# Altium schematic symbol library Transistor_BJT.SchLib: 390 symbols (part 2 of 3)
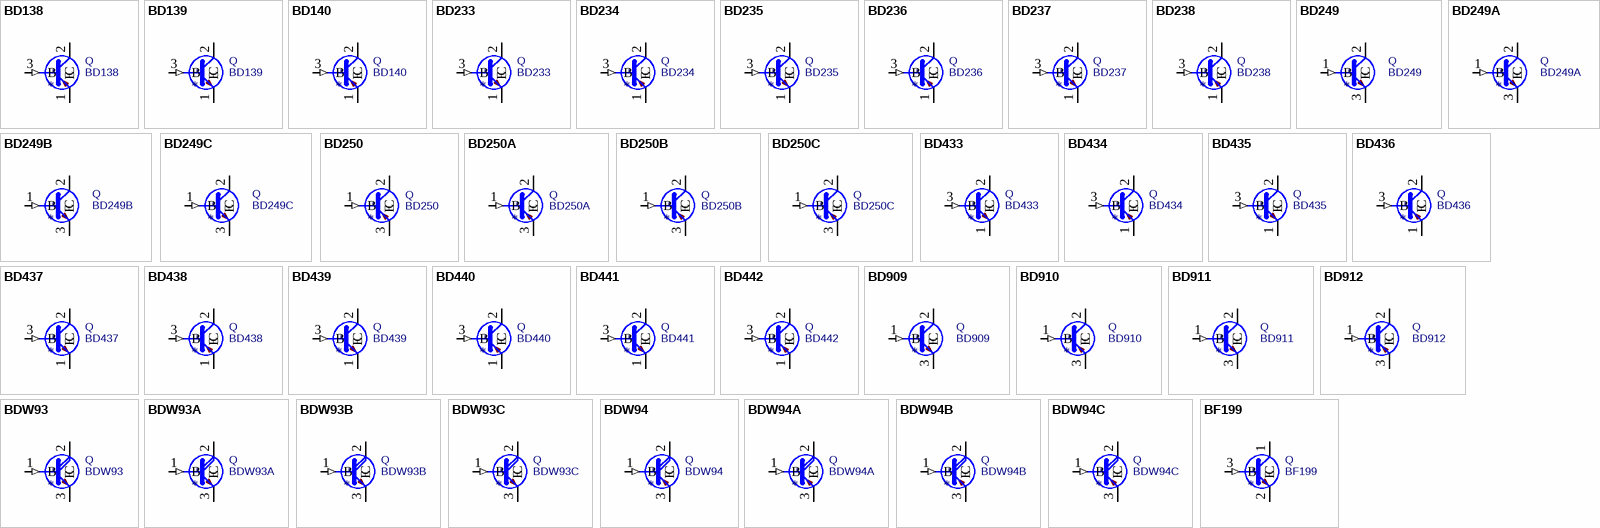
[diagram p12: symbols BD138 to BF199]

## BD909
designator *  value BD909  Reference: Q
15A, Silicon Power NPN Transistors, TO-220; ki_fp_filters: TO?220*; Footprint: Package_TO_SOT_THT:TO-220-3_Vertical; Datasheet: http://www.st.com/internet/com/TECHNICAL_RESOURCES/TECHNICAL_LITERATURE/DATASHEET/CD00001277.pdf; Description_: 15A, Silicon Power NPN Transistors, TO-220; ki_keywords: Power NPN Transistor
pins: 1 B (in), 2 C, 3 E

## BD910
designator *  value BD910  Reference: Q
15A, Silicon Power PNP Transistors, TO-220; ki_fp_filters: TO?220*; Footprint: Package_TO_SOT_THT:TO-220-3_Vertical; Datasheet: http://www.st.com/internet/com/TECHNICAL_RESOURCES/TECHNICAL_LITERATURE/DATASHEET/CD00001277.pdf; Description_: 15A, Silicon Power PNP Transistors, TO-220; ki_keywords: Power PNP Transistor
pins: 1 B (in), 2 C, 3 E

## BD911
designator *  value BD911  Reference: Q
15A, Silicon Power NPN Transistors, TO-220; ki_fp_filters: TO?220*; Footprint: Package_TO_SOT_THT:TO-220-3_Vertical; Datasheet: http://www.st.com/internet/com/TECHNICAL_RESOURCES/TECHNICAL_LITERATURE/DATASHEET/CD00001277.pdf; Description_: 15A, Silicon Power NPN Transistors, TO-220; ki_keywords: Power NPN Transistor
pins: 1 B (in), 2 C, 3 E

## BD912
designator *  value BD912  Reference: Q
BD910, 15A, Silicon Power PNP Transistors, TO-220; ki_fp_filters: TO?220*; Footprint: Package_TO_SOT_THT:TO-220-3_Vertical; Datasheet: http://www.st.com/internet/com/TECHNICAL_RESOURCES/TECHNICAL_LITERATURE/DATASHEET/CD00001277.pdf; Description_: BD910, 15A, Silicon Power PNP Transistors, TO-220; ki_keywords: Power PNP Transistor
pins: 1 B (in), 2 C, 3 E

## BDW93
designator *  value BDW93  Reference: Q
12A Ic, 45V Vce, Power Darlington NPN Transistor, TO-220; ki_fp_filters: TO?220*; Footprint: Package_TO_SOT_THT:TO-220-3_Vertical; Datasheet: https://www.onsemi.com/pub/Collateral/BDW93C-D.pdf; Description_: 12A Ic, 45V Vce, Power Darlington NPN Transistor, TO-220; ki_keywords: Darlington NPN Transistor
pins: 1 B (in), 2 C, 3 E

## BDW93A
designator *  value BDW93A  Reference: Q
12A Ic, 60V Vce, Power Darlington NPN Transistor, TO-220; ki_fp_filters: TO?220*; Footprint: Package_TO_SOT_THT:TO-220-3_Vertical; Datasheet: https://www.onsemi.com/pub/Collateral/BDW93C-D.pdf; Description_: 12A Ic, 60V Vce, Power Darlington NPN Transistor, TO-220; ki_keywords: Darlington NPN Transistor
pins: 1 B (in), 2 C, 3 E

## BDW93B
designator *  value BDW93B  Reference: Q
12A Ic, 80V Vce, Power Darlington NPN Transistor, TO-220; ki_fp_filters: TO?220*; Footprint: Package_TO_SOT_THT:TO-220-3_Vertical; Datasheet: https://www.onsemi.com/pub/Collateral/BDW93C-D.pdf; Description_: 12A Ic, 80V Vce, Power Darlington NPN Transistor, TO-220; ki_keywords: Darlington NPN Transistor
pins: 1 B (in), 2 C, 3 E

## BDW93C
designator *  value BDW93C  Reference: Q
12A Ic, 100V Vce, Power Darlington NPN Transistor, TO-220; ki_fp_filters: TO?220*; Footprint: Package_TO_SOT_THT:TO-220-3_Vertical; Datasheet: https://www.onsemi.com/pub/Collateral/BDW93C-D.pdf; Description_: 12A Ic, 100V Vce, Power Darlington NPN Transistor, TO-220; ki_keywords: Darlington NPN Transistor
pins: 1 B (in), 2 C, 3 E

## BDW94
designator *  value BDW94  Reference: Q
12A Ic, 45V Vce, Power Darlington PNP Transistor, TO-220; ki_fp_filters: TO?220*; Footprint: Package_TO_SOT_THT:TO-220-3_Vertical; Datasheet: http://www.bourns.com/data/global/pdfs/bdw94.pdf; Description_: 12A Ic, 45V Vce, Power Darlington PNP Transistor, TO-220; ki_keywords: Darlington PNP Transistor
pins: 1 B (in), 2 C, 3 E

## BDW94A
designator *  value BDW94A  Reference: Q
12A Ic, 60V Vce, Power Darlington PNP Transistor, TO-220; ki_fp_filters: TO?220*; Footprint: Package_TO_SOT_THT:TO-220-3_Vertical; Datasheet: http://www.bourns.com/data/global/pdfs/bdw94.pdf; Description_: 12A Ic, 60V Vce, Power Darlington PNP Transistor, TO-220; ki_keywords: Darlington PNP Transistor
pins: 1 B (in), 2 C, 3 E

## BDW94B
designator *  value BDW94B  Reference: Q
12A Ic, 80V Vce, Power Darlington PNP Transistor, TO-220; ki_fp_filters: TO?220*; Footprint: Package_TO_SOT_THT:TO-220-3_Vertical; Datasheet: http://www.bourns.com/data/global/pdfs/bdw94.pdf; Description_: 12A Ic, 80V Vce, Power Darlington PNP Transistor, TO-220; ki_keywords: Darlington PNP Transistor
pins: 1 B (in), 2 C, 3 E

## BDW94C
designator *  value BDW94C  Reference: Q
12A Ic, 100V Vce, Power Darlington PNP Transistor, TO-220; ki_fp_filters: TO?220*; Footprint: Package_TO_SOT_THT:TO-220-3_Vertical; Datasheet: http://www.bourns.com/data/global/pdfs/bdw94.pdf; Description_: 12A Ic, 100V Vce, Power Darlington PNP Transistor, TO-220; ki_keywords: Darlington PNP Transistor
pins: 1 B (in), 2 C, 3 E

## BF199
designator *  value BF199  Reference: Q
50mA Ic, 25V Vce, NPN Radio Frequency Transistor, TO-220; ki_keywords: RF NPN Transistor; ki_fp_filters: TO?92*; Footprint: Package_TO_SOT_THT:TO-92_Inline; Datasheet: http://www.micropik.com/PDF/BF199.pdf; Description_: 50mA Ic, 25V Vce, NPN Radio Frequency Transistor, TO-220
pins: 1 C, 2 E, 3 B (in)

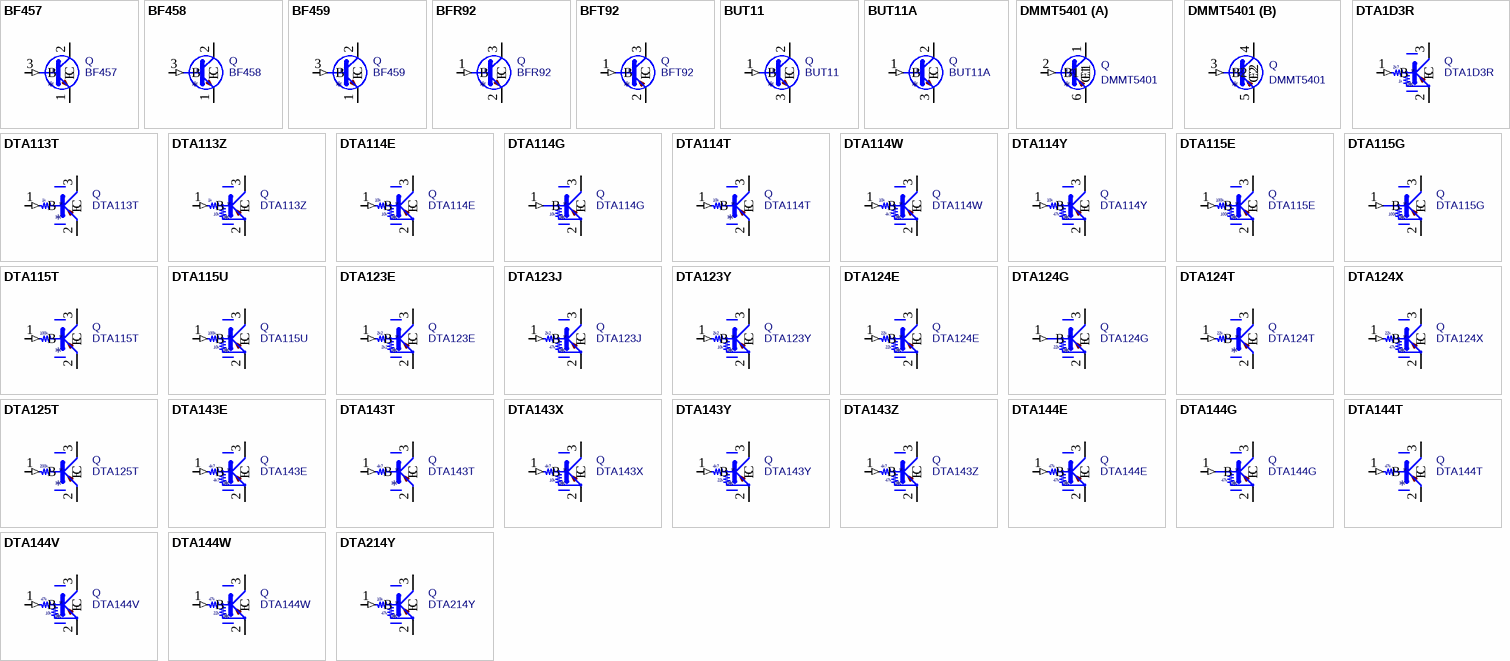
[diagram p4: symbols BF457 to DTA214Y]

## BF457
designator *  value BF457  Reference: Q
0.1A Ic, 160V Vce, High Voltage NPN Transistor, TO-126; ki_keywords: NPN HV High Voltage Transistor; ki_fp_filters: TO?126*; Footprint: Package_TO_SOT_THT:TO-126-3_Vertical; Datasheet: https://www.pcpaudio.com/pcpfiles/transistores/BF457-8-9.pdf; Description_: 0.1A Ic, 160V Vce, High Voltage NPN Transistor, TO-126
pins: 1 E, 2 C, 3 B (in)

## BF458
designator *  value BF458  Reference: Q
0.1A Ic, 250V Vce, High Voltage NPN Transistor, TO-126; ki_keywords: NPN HV High Voltage Transistor; ki_fp_filters: TO?126*; Footprint: Package_TO_SOT_THT:TO-126-3_Vertical; Datasheet: https://www.pcpaudio.com/pcpfiles/transistores/BF457-8-9.pdf; Description_: 0.1A Ic, 250V Vce, High Voltage NPN Transistor, TO-126
pins: 1 E, 2 C, 3 B (in)

## BF459
designator *  value BF459  Reference: Q
0.1A Ic, 300V Vce, High Voltage NPN Transistor, TO-126; ki_keywords: NPN HV High Voltage Transistor; ki_fp_filters: TO?126*; Footprint: Package_TO_SOT_THT:TO-126-3_Vertical; Datasheet: https://www.pcpaudio.com/pcpfiles/transistores/BF457-8-9.pdf; Description_: 0.1A Ic, 300V Vce, High Voltage NPN Transistor, TO-126
pins: 1 E, 2 C, 3 B (in)

## BFR92
designator *  value BFR92  Reference: Q
0.025A Ic, 15V Vce, 5GHz Wideband NPN Transistor, SOT-323; ki_keywords: RF 5GHz NPN Transistor; ki_fp_filters: SOT?323*; Footprint: Package_TO_SOT_SMD:SOT-323_SC-70; Datasheet: https://assets.nexperia.com/documents/data-sheet/BFR92A_N.pdf; Description_: 0.025A Ic, 15V Vce, 5GHz Wideband NPN Transistor, SOT-323
pins: 1 B (in), 2 E, 3 C

## BFT92
designator *  value BFT92  Reference: Q
0.025A Ic, 15V Vce, 5GHz Wideband PNP Transistor, SOT-23; ki_keywords: RF 5GHz NPN Transistor; ki_fp_filters: SOT?23*; Footprint: Package_TO_SOT_SMD:SOT-23; Datasheet: https://assets.nexperia.com/documents/data-sheet/BFT92_CNV.pdf; Description_: 0.025A Ic, 15V Vce, 5GHz Wideband PNP Transistor, SOT-23
pins: 1 B (in), 2 E, 3 C

## BUT11
designator *  value BUT11  Reference: Q
5A Ic, 400V Vce, Silicon Power NPN Transistors, TO-220; ki_keywords: High Voltage Power NPN Transistor; ki_fp_filters: TO?220*; Footprint: Package_TO_SOT_THT:TO-220-3_Vertical; Datasheet: https://www.onsemi.com/pub/Collateral/BUT11A-D.pdf; Description_: 5A Ic, 400V Vce, Silicon Power NPN Transistors, TO-220
pins: 1 B (in), 2 C, 3 E

## BUT11A
designator *  value BUT11A  Reference: Q
5A Ic, 450V Vce, Silicon Power NPN Transistors, TO-220; ki_keywords: High Voltage Power NPN Transistor; ki_fp_filters: TO?220*; Footprint: Package_TO_SOT_THT:TO-220-3_Vertical; Datasheet: https://www.onsemi.com/pub/Collateral/BUT11A-D.pdf; Description_: 5A Ic, 450V Vce, Silicon Power NPN Transistors, TO-220
pins: 1 B (in), 2 C, 3 E

## DMMT5401
designator *  value DMMT5401  Reference: Q
Dual PNP transistor, 6 pin package; ki_keywords: transistor PNP; ki_fp_filters: SOT?23*; Footprint: Package_TO_SOT_SMD:SOT-23-6; Datasheet: https://www.diodes.com/assets/Datasheets/ds30437.pdf; Description_: Dual PNP transistor, 6 pin package
part A pins: 1 C1, 2 B1 (in), 6 E1
part B pins: 3 B2 (in), 4 C2, 5 E2

## DTA1D3R
designator *  value DTA1D3R  Reference: Q
Digital PNP Transistor, 2k7/1k, SOT-23; ki_keywords: ROHM Digital PNP Transistor; ki_fp_filters: SOT?23* SC?59*; Description_: Digital PNP Transistor, 2k7/1k, SOT-23
pins: 1 B (in), 2 E, 3 C
text: 2k7; 1k

## DTA113T
designator *  value DTA113T  Reference: Q
Digital PNP Transistor, 1k/NONE, SOT-23; ki_keywords: ROHM Digital PNP Transistor; ki_fp_filters: SOT?23* SC?59*; Description_: Digital PNP Transistor, 1k/NONE, SOT-23
pins: 1 B (in), 2 E, 3 C
text: 1k

## DTA113Z
designator *  value DTA113Z  Reference: Q
Digital PNP Transistor, 1k/10k, SOT-23; ki_keywords: ROHM Digital PNP Transistor; ki_fp_filters: SOT?23* SC?59*; Description_: Digital PNP Transistor, 1k/10k, SOT-23
pins: 1 B (in), 2 E, 3 C
text: 1k; 10k

## DTA114E
designator *  value DTA114E  Reference: Q
Digital PNP Transistor, 10k/10k, SOT-23; ki_keywords: ROHM Digital PNP Transistor; ki_fp_filters: SOT?23* SC?59*; Description_: Digital PNP Transistor, 10k/10k, SOT-23
pins: 1 B (in), 2 E, 3 C
text: 10k

## DTA114G
designator *  value DTA114G  Reference: Q
Digital PNP Transistor, 0k/10k, SOT-23; ki_keywords: ROHM Digital PNP Transistor; ki_fp_filters: SOT?23* SC?59*; Description_: Digital PNP Transistor, 0k/10k, SOT-23
pins: 1 B (in), 2 E, 3 C
text: 10k

## DTA114T
designator *  value DTA114T  Reference: Q
Digital PNP Transistor, 10k/NONE, SOT-23; ki_keywords: ROHM Digital PNP Transistor; ki_fp_filters: SOT?23* SC?59*; Description_: Digital PNP Transistor, 10k/NONE, SOT-23
pins: 1 B (in), 2 E, 3 C
text: 10k

## DTA114W
designator *  value DTA114W  Reference: Q
Digital PNP Transistor, 10k/4.7k, SOT-23; ki_keywords: ROHM Digital PNP Transistor; ki_fp_filters: SOT?23* SC?59*; Description_: Digital PNP Transistor, 10k/4.7k, SOT-23
pins: 1 B (in), 2 E, 3 C
text: 10k; 4k7

## DTA114Y
designator *  value DTA114Y  Reference: Q
Digital PNP Transistor, 10k/47k, SOT-23; ki_keywords: ROHM Digital PNP Transistor; ki_fp_filters: SOT?23* SC?59*; Description_: Digital PNP Transistor, 10k/47k, SOT-23
pins: 1 B (in), 2 E, 3 C
text: 10k; 47k

## DTA115E
designator *  value DTA115E  Reference: Q
Digital PNP Transistor, 100k/100k, SOT-23; ki_keywords: ROHM Digital PNP Transistor; ki_fp_filters: SOT?23* SC?59*; Description_: Digital PNP Transistor, 100k/100k, SOT-23
pins: 1 B (in), 2 E, 3 C
text: 100k

## DTA115G
designator *  value DTA115G  Reference: Q
Digital PNP Transistor, 0k/100k, SOT-23; ki_keywords: ROHM Digital PNP Transistor; ki_fp_filters: SOT?23* SC?59*; Description_: Digital PNP Transistor, 0k/100k, SOT-23
pins: 1 B (in), 2 E, 3 C
text: 100k

## DTA115T
designator *  value DTA115T  Reference: Q
Digital PNP Transistor, 100k/NONE, SOT-23; ki_keywords: ROHM Digital PNP Transistor; ki_fp_filters: SOT?23* SC?59*; Description_: Digital PNP Transistor, 100k/NONE, SOT-23
pins: 1 B (in), 2 E, 3 C
text: 100k

## DTA115U
designator *  value DTA115U  Reference: Q
Digital PNP Transistor, 100k/10k, SOT-23; ki_keywords: ROHM Digital PNP Transistor; ki_fp_filters: SOT?23* SC?59*; Description_: Digital PNP Transistor, 100k/10k, SOT-23
pins: 1 B (in), 2 E, 3 C
text: 100k; 10k

## DTA123E
designator *  value DTA123E  Reference: Q
Digital PNP Transistor, 2k2/2k2, SOT-23; ki_keywords: ROHM Digital PNP Transistor; ki_fp_filters: SOT?23* SC?59*; Description_: Digital PNP Transistor, 2k2/2k2, SOT-23
pins: 1 B (in), 2 E, 3 C
text: 2k2

## DTA123J
designator *  value DTA123J  Reference: Q
Digital PNP Transistor, 2k2/47k, SOT-23; ki_keywords: ROHM Digital PNP Transistor; ki_fp_filters: SOT?23* SC?59*; Description_: Digital PNP Transistor, 2k2/47k, SOT-23
pins: 1 B (in), 2 E, 3 C
text: 2k2; 47k

## DTA123Y
designator *  value DTA123Y  Reference: Q
Digital PNP Transistor, 2k2/10k, SOT-23; ki_keywords: ROHM Digital PNP Transistor; ki_fp_filters: SOT?23* SC?59*; Description_: Digital PNP Transistor, 2k2/10k, SOT-23
pins: 1 B (in), 2 E, 3 C
text: 2k2; 10k

## DTA124E
designator *  value DTA124E  Reference: Q
Digital PNP Transistor, 22k/22k, SOT-23; ki_keywords: ROHM Digital PNP Transistor; ki_fp_filters: SOT?23* SC?59*; Description_: Digital PNP Transistor, 22k/22k, SOT-23
pins: 1 B (in), 2 E, 3 C
text: 22k

## DTA124G
designator *  value DTA124G  Reference: Q
Digital PNP Transistor, 0k/22k, SOT-23; ki_keywords: ROHM Digital PNP Transistor; ki_fp_filters: SOT?23* SC?59*; Description_: Digital PNP Transistor, 0k/22k, SOT-23
pins: 1 B (in), 2 E, 3 C
text: 22k

## DTA124T
designator *  value DTA124T  Reference: Q
Digital PNP Transistor, 22k/NONE, SOT-23; ki_keywords: ROHM Digital PNP Transistor; ki_fp_filters: SOT?23* SC?59*; Description_: Digital PNP Transistor, 22k/NONE, SOT-23
pins: 1 B (in), 2 E, 3 C
text: 22k

## DTA124X
designator *  value DTA124X  Reference: Q
Digital PNP Transistor, 22k/47k, SOT-23; ki_keywords: ROHM Digital PNP Transistor; ki_fp_filters: SOT?23* SC?59*; Description_: Digital PNP Transistor, 22k/47k, SOT-23
pins: 1 B (in), 2 E, 3 C
text: 22k; 47k

## DTA125T
designator *  value DTA125T  Reference: Q
Digital PNP Transistor, 200k/NONE, SOT-23; ki_keywords: ROHM Digital PNP Transistor; ki_fp_filters: SOT?23* SC?59*; Description_: Digital PNP Transistor, 200k/NONE, SOT-23
pins: 1 B (in), 2 E, 3 C
text: 200k

## DTA143E
designator *  value DTA143E  Reference: Q
Digital PNP Transistor, 4k7/4k7, SOT-23; ki_keywords: ROHM Digital PNP Transistor; ki_fp_filters: SOT?23* SC?59*; Description_: Digital PNP Transistor, 4k7/4k7, SOT-23
pins: 1 B (in), 2 E, 3 C
text: 4k7

## DTA143T
designator *  value DTA143T  Reference: Q
Digital PNP Transistor, 4k7/NONE, SOT-23; ki_keywords: ROHM Digital PNP Transistor; ki_fp_filters: SOT?23* SC?59*; Description_: Digital PNP Transistor, 4k7/NONE, SOT-23
pins: 1 B (in), 2 E, 3 C
text: 4k7

## DTA143X
designator *  value DTA143X  Reference: Q
Digital PNP Transistor, 4k7/10k, SOT-23; ki_keywords: ROHM Digital PNP Transistor; ki_fp_filters: SOT?23* SC?59*; Description_: Digital PNP Transistor, 4k7/10k, SOT-23
pins: 1 B (in), 2 E, 3 C
text: 4k7; 10k

## DTA143Y
designator *  value DTA143Y  Reference: Q
Digital PNP Transistor, 4k7/22k, SOT-23; ki_keywords: ROHM Digital PNP Transistor; ki_fp_filters: SOT?23* SC?59*; Description_: Digital PNP Transistor, 4k7/22k, SOT-23
pins: 1 B (in), 2 E, 3 C
text: 4k7; 22k

## DTA143Z
designator *  value DTA143Z  Reference: Q
Digital PNP Transistor, 4k7/47k, SOT-23; ki_keywords: ROHM Digital PNP Transistor; ki_fp_filters: SOT?23* SC?59*; Description_: Digital PNP Transistor, 4k7/47k, SOT-23
pins: 1 B (in), 2 E, 3 C
text: 4k7; 47k

## DTA144E
designator *  value DTA144E  Reference: Q
Digital PNP Transistor, 47k/47k, SOT-23; ki_keywords: ROHM Digital PNP Transistor; ki_fp_filters: SOT?23* SC?59*; Description_: Digital PNP Transistor, 47k/47k, SOT-23
pins: 1 B (in), 2 E, 3 C
text: 47k

## DTA144G
designator *  value DTA144G  Reference: Q
Digital PNP Transistor, 0k/47k, SOT-23; ki_keywords: ROHM Digital PNP Transistor; ki_fp_filters: SOT?23* SC?59*; Description_: Digital PNP Transistor, 0k/47k, SOT-23
pins: 1 B (in), 2 E, 3 C
text: 47k

## DTA144T
designator *  value DTA144T  Reference: Q
Digital PNP Transistor, 47k/NONE, SOT-23; ki_keywords: ROHM Digital PNP Transistor; ki_fp_filters: SOT?23* SC?59*; Description_: Digital PNP Transistor, 47k/NONE, SOT-23
pins: 1 B (in), 2 E, 3 C
text: 47k

## DTA144V
designator *  value DTA144V  Reference: Q
Digital PNP Transistor, 47k/10k, SOT-23; ki_keywords: ROHM Digital PNP Transistor; ki_fp_filters: SOT?23* SC?59*; Description_: Digital PNP Transistor, 47k/10k, SOT-23
pins: 1 B (in), 2 E, 3 C
text: 47k; 10k

## DTA144W
designator *  value DTA144W  Reference: Q
Digital PNP Transistor, 47k/22k, SOT-23; ki_keywords: ROHM Digital PNP Transistor; ki_fp_filters: SOT?23* SC?59*; Description_: Digital PNP Transistor, 47k/22k, SOT-23
pins: 1 B (in), 2 E, 3 C
text: 47k; 22k

## DTA214Y
designator *  value DTA214Y  Reference: Q
Digital PNP Transistor, 10k/47k, SOT-23; ki_keywords: ROHM Digital PNP Transistor; ki_fp_filters: SOT?23* SC?59*; Description_: Digital PNP Transistor, 10k/47k, SOT-23
pins: 1 B (in), 2 E, 3 C
text: 10k; 47k

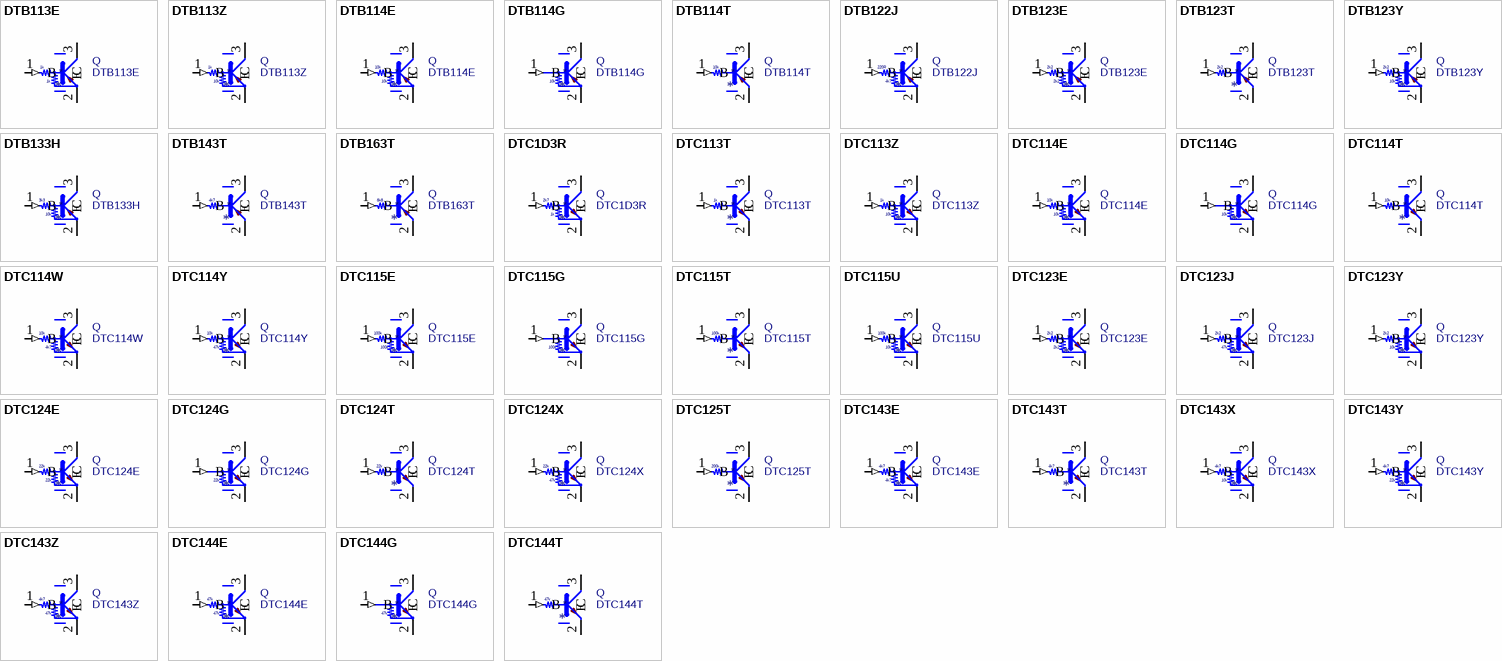
[diagram p5: symbols DTB113E to DTC144T]

## DTB113E
designator *  value DTB113E  Reference: Q
Digital PNP Transistor, 1k/1k, SOT-23; ki_keywords: ROHM Digital PNP Transistor; ki_fp_filters: SOT?23* SC?59*; Description_: Digital PNP Transistor, 1k/1k, SOT-23
pins: 1 B (in), 2 E, 3 C
text: 1k

## DTB113Z
designator *  value DTB113Z  Reference: Q
Digital PNP Transistor, 1k/10k, SOT-23; ki_keywords: ROHM Digital PNP Transistor; ki_fp_filters: SOT?23* SC?59*; Description_: Digital PNP Transistor, 1k/10k, SOT-23
pins: 1 B (in), 2 E, 3 C
text: 1k; 10k

## DTB114E
designator *  value DTB114E  Reference: Q
Digital PNP Transistor, 10k/10k, SOT-23; ki_keywords: ROHM Digital PNP Transistor; ki_fp_filters: SOT?23* SC?59*; Description_: Digital PNP Transistor, 10k/10k, SOT-23
pins: 1 B (in), 2 E, 3 C
text: 10k

## DTB114G
designator *  value DTB114G  Reference: Q
Digital PNP Transistor, 0k/10k, SOT-23; ki_keywords: ROHM Digital PNP Transistor; ki_fp_filters: SOT?23* SC?59*; Description_: Digital PNP Transistor, 0k/10k, SOT-23
pins: 1 B (in), 2 E, 3 C
text: 10k

## DTB114T
designator *  value DTB114T  Reference: Q
Digital PNP Transistor, 10k/NONE, SOT-23; ki_keywords: ROHM Digital PNP Transistor; ki_fp_filters: SOT?23* SC?59*; Description_: Digital PNP Transistor, 10k/NONE, SOT-23
pins: 1 B (in), 2 E, 3 C
text: 10k

## DTB122J
designator *  value DTB122J  Reference: Q
Digital PNP Transistor, 0k22/4k7, SOT-23; ki_keywords: ROHM Digital PNP Transistor; ki_fp_filters: SOT?23* SC?59*; Description_: Digital PNP Transistor, 0k22/4k7, SOT-23
pins: 1 B (in), 2 E, 3 C
text: 220R; 4k7

## DTB123E
designator *  value DTB123E  Reference: Q
Digital PNP Transistor, 2k2/2k2, SOT-23; ki_keywords: ROHM Digital PNP Transistor; ki_fp_filters: SOT?23* SC?59*; Description_: Digital PNP Transistor, 2k2/2k2, SOT-23
pins: 1 B (in), 2 E, 3 C
text: 2k2

## DTB123T
designator *  value DTB123T  Reference: Q
Digital PNP Transistor, 2k2/NONE, SOT-23; ki_keywords: ROHM Digital PNP Transistor; ki_fp_filters: SOT?23* SC?59*; Description_: Digital PNP Transistor, 2k2/NONE, SOT-23
pins: 1 B (in), 2 E, 3 C
text: 2k2

## DTB123Y
designator *  value DTB123Y  Reference: Q
Digital PNP Transistor, 2k2/10k, SOT-23; ki_keywords: ROHM Digital PNP Transistor; ki_fp_filters: SOT?23* SC?59*; Description_: Digital PNP Transistor, 2k2/10k, SOT-23
pins: 1 B (in), 2 E, 3 C
text: 2k2; 10k

## DTB133H
designator *  value DTB133H  Reference: Q
Digital PNP Transistor, 3k3/10k, SOT-23; ki_keywords: ROHM Digital PNP Transistor; ki_fp_filters: SOT?23* SC?59*; Description_: Digital PNP Transistor, 3k3/10k, SOT-23
pins: 1 B (in), 2 E, 3 C
text: 3k3; 10k

## DTB143T
designator *  value DTB143T  Reference: Q
Digital PNP Transistor, 4k7/NONE, SOT-23; ki_keywords: ROHM Digital PNP Transistor; ki_fp_filters: SOT?23* SC?59*; Description_: Digital PNP Transistor, 4k7/NONE, SOT-23
pins: 1 B (in), 2 E, 3 C
text: 4k7

## DTB163T
designator *  value DTB163T  Reference: Q
Digital PNP Transistor, 6k8/NONE, SOT-23; ki_keywords: ROHM Digital PNP Transistor; ki_fp_filters: SOT?23* SC?59*; Description_: Digital PNP Transistor, 6k8/NONE, SOT-23
pins: 1 B (in), 2 E, 3 C
text: 6k8

## DTC1D3R
designator *  value DTC1D3R  Reference: Q
Digital NPN Transistor, 2k7/1k, SOT-23; ki_keywords: ROHM Digital NPN Transistor; ki_fp_filters: SOT?23* SC?59*; Description_: Digital NPN Transistor, 2k7/1k, SOT-23
pins: 1 B (in), 2 E, 3 C
text: 2k7; 1k

## DTC113T
designator *  value DTC113T  Reference: Q
Digital NPN Transistor, 1k/NONE, SOT-23; ki_keywords: ROHM Digital NPN Transistor; ki_fp_filters: SOT?23* SC?59*; Description_: Digital NPN Transistor, 1k/NONE, SOT-23
pins: 1 B (in), 2 E, 3 C
text: 1k

## DTC113Z
designator *  value DTC113Z  Reference: Q
Digital NPN Transistor, 1k/10k, SOT-23; ki_keywords: ROHM Digital NPN Transistor; ki_fp_filters: SOT?23* SC?59*; Description_: Digital NPN Transistor, 1k/10k, SOT-23
pins: 1 B (in), 2 E, 3 C
text: 1k; 10k

## DTC114E
designator *  value DTC114E  Reference: Q
Digital NPN Transistor, 10k/10k, SOT-23; ki_keywords: ROHM Digital NPN Transistor; ki_fp_filters: SOT?23* SC?59*; Description_: Digital NPN Transistor, 10k/10k, SOT-23
pins: 1 B (in), 2 E, 3 C
text: 10k

## DTC114G
designator *  value DTC114G  Reference: Q
Digital NPN Transistor, 0k/10k, SOT-23; ki_keywords: ROHM Digital NPN Transistor; ki_fp_filters: SOT?23* SC?59*; Description_: Digital NPN Transistor, 0k/10k, SOT-23
pins: 1 B (in), 2 E, 3 C
text: 10k

## DTC114T
designator *  value DTC114T  Reference: Q
Digital NPN Transistor, 10k/NONE, SOT-23; ki_keywords: ROHM Digital NPN Transistor; ki_fp_filters: SOT?23* SC?59*; Description_: Digital NPN Transistor, 10k/NONE, SOT-23
pins: 1 B (in), 2 E, 3 C
text: 10k

## DTC114W
designator *  value DTC114W  Reference: Q
Digital NPN Transistor, 10k/4k7, SOT-23; ki_keywords: ROHM Digital NPN Transistor; ki_fp_filters: SOT?23* SC?59*; Description_: Digital NPN Transistor, 10k/4k7, SOT-23
pins: 1 B (in), 2 E, 3 C
text: 10k; 4k7

## DTC114Y
designator *  value DTC114Y  Reference: Q
Digital NPN Transistor, 10k/47k, SOT-23; ki_keywords: ROHM Digital NPN Transistor; ki_fp_filters: SOT?23* SC?59*; Description_: Digital NPN Transistor, 10k/47k, SOT-23
pins: 1 B (in), 2 E, 3 C
text: 10k; 47k

## DTC115E
designator *  value DTC115E  Reference: Q
Digital NPN Transistor, 100k/100k, SOT-23; ki_keywords: ROHM Digital NPN Transistor; ki_fp_filters: SOT?23* SC?59*; Description_: Digital NPN Transistor, 100k/100k, SOT-23
pins: 1 B (in), 2 E, 3 C
text: 100k

## DTC115G
designator *  value DTC115G  Reference: Q
Digital NPN Transistor, 0k/100k, SOT-23; ki_keywords: ROHM Digital NPN Transistor; ki_fp_filters: SOT?23* SC?59*; Description_: Digital NPN Transistor, 0k/100k, SOT-23
pins: 1 B (in), 2 E, 3 C
text: 100k

## DTC115T
designator *  value DTC115T  Reference: Q
Digital NPN Transistor, 100k/NONE, SOT-23; ki_keywords: ROHM Digital NPN Transistor; ki_fp_filters: SOT?23* SC?59*; Description_: Digital NPN Transistor, 100k/NONE, SOT-23
pins: 1 B (in), 2 E, 3 C
text: 100k

## DTC115U
designator *  value DTC115U  Reference: Q
Digital NPN Transistor, 100k/10k, SOT-23; ki_keywords: ROHM Digital NPN Transistor; ki_fp_filters: SOT?23* SC?59*; Description_: Digital NPN Transistor, 100k/10k, SOT-23
pins: 1 B (in), 2 E, 3 C
text: 100k; 10k

## DTC123E
designator *  value DTC123E  Reference: Q
Digital NPN Transistor, 2k2/2k2, SOT-23; ki_keywords: ROHM Digital NPN Transistor; ki_fp_filters: SOT?23* SC?59*; Description_: Digital NPN Transistor, 2k2/2k2, SOT-23
pins: 1 B (in), 2 E, 3 C
text: 2k2

## DTC123J
designator *  value DTC123J  Reference: Q
Digital NPN Transistor, 2k2/47k, SOT-23; ki_keywords: ROHM Digital NPN Transistor; ki_fp_filters: SOT?23* SC?59*; Description_: Digital NPN Transistor, 2k2/47k, SOT-23
pins: 1 B (in), 2 E, 3 C
text: 2k2; 47k

## DTC123Y
designator *  value DTC123Y  Reference: Q
Digital NPN Transistor, 2k2/10k, SOT-23; ki_keywords: ROHM Digital NPN Transistor; ki_fp_filters: SOT?23* SC?59*; Description_: Digital NPN Transistor, 2k2/10k, SOT-23
pins: 1 B (in), 2 E, 3 C
text: 2k2; 10k

## DTC124E
designator *  value DTC124E  Reference: Q
Digital NPN Transistor, 22k/22k, SOT-23; ki_keywords: ROHM Digital NPN Transistor; ki_fp_filters: SOT?23* SC?59*; Description_: Digital NPN Transistor, 22k/22k, SOT-23
pins: 1 B (in), 2 E, 3 C
text: 22k

## DTC124G
designator *  value DTC124G  Reference: Q
Digital NPN Transistor, 0k/22k, SOT-23; ki_keywords: ROHM Digital NPN Transistor; ki_fp_filters: SOT?23* SC?59*; Description_: Digital NPN Transistor, 0k/22k, SOT-23
pins: 1 B (in), 2 E, 3 C
text: 22k

## DTC124T
designator *  value DTC124T  Reference: Q
Digital NPN Transistor, 22k/NONE, SOT-23; ki_keywords: ROHM Digital NPN Transistor; ki_fp_filters: SOT?23* SC?59*; Description_: Digital NPN Transistor, 22k/NONE, SOT-23
pins: 1 B (in), 2 E, 3 C
text: 22k

## DTC124X
designator *  value DTC124X  Reference: Q
Digital NPN Transistor, 22k/47k, SOT-23; ki_keywords: ROHM Digital NPN Transistor; ki_fp_filters: SOT?23* SC?59*; Description_: Digital NPN Transistor, 22k/47k, SOT-23
pins: 1 B (in), 2 E, 3 C
text: 22k; 47k

## DTC125T
designator *  value DTC125T  Reference: Q
Digital NPN Transistor, 200k/NONE, SOT-23; ki_keywords: ROHM Digital NPN Transistor; ki_fp_filters: SOT?23* SC?59*; Description_: Digital NPN Transistor, 200k/NONE, SOT-23
pins: 1 B (in), 2 E, 3 C
text: 200k

## DTC143E
designator *  value DTC143E  Reference: Q
Digital NPN Transistor, 4k7/4k7, SOT-23; ki_keywords: ROHM Digital NPN Transistor; ki_fp_filters: SOT?23* SC?59*; Description_: Digital NPN Transistor, 4k7/4k7, SOT-23
pins: 1 B (in), 2 E, 3 C
text: 4k7

## DTC143T
designator *  value DTC143T  Reference: Q
Digital NPN Transistor, 4k7/NONE, SOT-23; ki_keywords: ROHM Digital NPN Transistor; ki_fp_filters: SOT?23* SC?59*; Description_: Digital NPN Transistor, 4k7/NONE, SOT-23
pins: 1 B (in), 2 E, 3 C
text: 4k7

## DTC143X
designator *  value DTC143X  Reference: Q
Digital NPN Transistor, 4k7/10k, SOT-23; ki_keywords: ROHM Digital NPN Transistor; ki_fp_filters: SOT?23* SC?59*; Description_: Digital NPN Transistor, 4k7/10k, SOT-23
pins: 1 B (in), 2 E, 3 C
text: 4k7; 10k

## DTC143Y
designator *  value DTC143Y  Reference: Q
Digital NPN Transistor, 4k7/22k, SOT-23; ki_keywords: ROHM Digital NPN Transistor; ki_fp_filters: SOT?23* SC?59*; Description_: Digital NPN Transistor, 4k7/22k, SOT-23
pins: 1 B (in), 2 E, 3 C
text: 4k7; 22k

## DTC143Z
designator *  value DTC143Z  Reference: Q
Digital NPN Transistor, 4k7/47k, SOT-23; ki_keywords: ROHM Digital NPN Transistor; ki_fp_filters: SOT?23* SC?59*; Description_: Digital NPN Transistor, 4k7/47k, SOT-23
pins: 1 B (in), 2 E, 3 C
text: 4k7; 47k

## DTC144E
designator *  value DTC144E  Reference: Q
Digital NPN Transistor, 47k/47k, SOT-23; ki_keywords: ROHM Digital NPN Transistor; ki_fp_filters: SOT?23* SC?59*; Description_: Digital NPN Transistor, 47k/47k, SOT-23
pins: 1 B (in), 2 E, 3 C
text: 47k

## DTC144G
designator *  value DTC144G  Reference: Q
Digital NPN Transistor, 0k/47k, SOT-23; ki_keywords: ROHM Digital NPN Transistor; ki_fp_filters: SOT?23* SC?59*; Description_: Digital NPN Transistor, 0k/47k, SOT-23
pins: 1 B (in), 2 E, 3 C
text: 47k

## DTC144T
designator *  value DTC144T  Reference: Q
Digital NPN Transistor, 47k/NONE, SOT-23; ki_keywords: ROHM Digital NPN Transistor; ki_fp_filters: SOT?23* SC?59*; Description_: Digital NPN Transistor, 47k/NONE, SOT-23
pins: 1 B (in), 2 E, 3 C
text: 47k

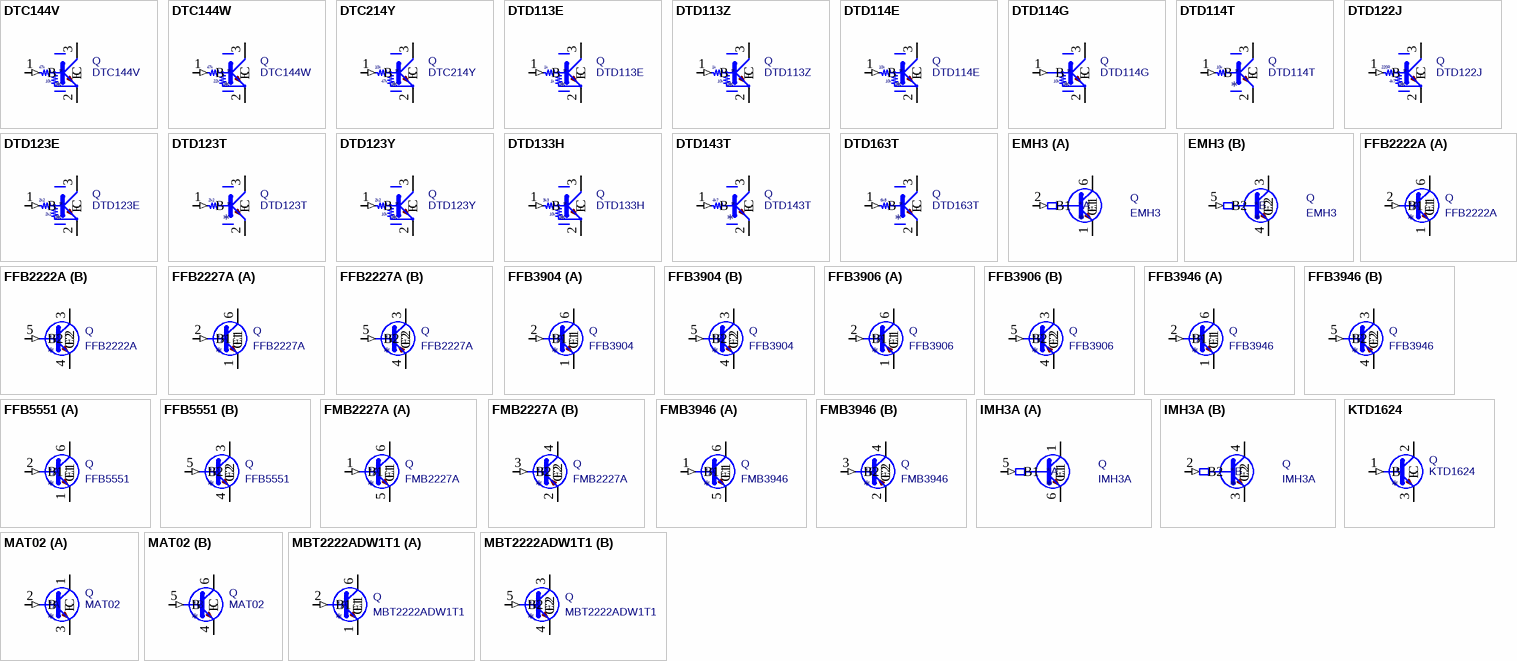
[diagram p6: symbols DTC144V to MBT2222ADW1T1]

## DTC144V
designator *  value DTC144V  Reference: Q
Digital NPN Transistor, 47k/10k, SOT-23; ki_keywords: ROHM Digital NPN Transistor; ki_fp_filters: SOT?23* SC?59*; Description_: Digital NPN Transistor, 47k/10k, SOT-23
pins: 1 B (in), 2 E, 3 C
text: 47k; 10k

## DTC144W
designator *  value DTC144W  Reference: Q
Digital NPN Transistor, 47k/22k, SOT-23; ki_keywords: ROHM Digital NPN Transistor; ki_fp_filters: SOT?23* SC?59*; Description_: Digital NPN Transistor, 47k/22k, SOT-23
pins: 1 B (in), 2 E, 3 C
text: 47k; 22k

## DTC214Y
designator *  value DTC214Y  Reference: Q
Digital NPN Transistor, 10k/47k, SOT-23; ki_keywords: ROHM Digital NPN Transistor; ki_fp_filters: SOT?23* SC?59*; Description_: Digital NPN Transistor, 10k/47k, SOT-23
pins: 1 B (in), 2 E, 3 C
text: 10k; 47k

## DTD113E
designator *  value DTD113E  Reference: Q
Digital NPN Transistor, 1k/1k, SOT-23; ki_keywords: ROHM Digital NPN Transistor; ki_fp_filters: SOT?23* SC?59*; Description_: Digital NPN Transistor, 1k/1k, SOT-23
pins: 1 B (in), 2 E, 3 C
text: 1k

## DTD113Z
designator *  value DTD113Z  Reference: Q
Digital NPN Transistor, 1k/10k, SOT-23; ki_keywords: ROHM Digital NPN Transistor; ki_fp_filters: SOT?23* SC?59*; Description_: Digital NPN Transistor, 1k/10k, SOT-23
pins: 1 B (in), 2 E, 3 C
text: 1k; 10k

## DTD114E
designator *  value DTD114E  Reference: Q
Digital NPN Transistor, 10k/10k, SOT-23; ki_keywords: ROHM Digital NPN Transistor; ki_fp_filters: SOT?23* SC?59*; Description_: Digital NPN Transistor, 10k/10k, SOT-23
pins: 1 B (in), 2 E, 3 C
text: 10k

## DTD114G
designator *  value DTD114G  Reference: Q
Digital NPN Transistor, 0k/10k, SOT-23; ki_keywords: ROHM Digital NPN Transistor; ki_fp_filters: SOT?23* SC?59*; Description_: Digital NPN Transistor, 0k/10k, SOT-23
pins: 1 B (in), 2 E, 3 C
text: 10k

## DTD114T
designator *  value DTD114T  Reference: Q
Digital NPN Transistor, 10k/NONE, SOT-23; ki_keywords: ROHM Digital NPN Transistor; ki_fp_filters: SOT?23* SC?59*; Description_: Digital NPN Transistor, 10k/NONE, SOT-23
pins: 1 B (in), 2 E, 3 C
text: 10k

## DTD122J
designator *  value DTD122J  Reference: Q
Digital NPN Transistor, 0k22/4k7, SOT-23; ki_keywords: ROHM Digital NPN Transistor; ki_fp_filters: SOT?23* SC?59*; Description_: Digital NPN Transistor, 0k22/4k7, SOT-23
pins: 1 B (in), 2 E, 3 C
text: 220R; 4k7

## DTD123E
designator *  value DTD123E  Reference: Q
Digital NPN Transistor, 2k2/2k2, SOT-23; ki_keywords: ROHM Digital NPN Transistor; ki_fp_filters: SOT?23* SC?59*; Description_: Digital NPN Transistor, 2k2/2k2, SOT-23
pins: 1 B (in), 2 E, 3 C
text: 2k2

## DTD123T
designator *  value DTD123T  Reference: Q
Digital NPN Transistor, 2k2/NONE, SOT-23; ki_keywords: ROHM Digital NPN Transistor; ki_fp_filters: SOT?23* SC?59*; Description_: Digital NPN Transistor, 2k2/NONE, SOT-23
pins: 1 B (in), 2 E, 3 C
text: 2k2

## DTD123Y
designator *  value DTD123Y  Reference: Q
Digital NPN Transistor, 2k2/10k, SOT-23; ki_keywords: ROHM Digital NPN Transistor; ki_fp_filters: SOT?23* SC?59*; Description_: Digital NPN Transistor, 2k2/10k, SOT-23
pins: 1 B (in), 2 E, 3 C
text: 2k2; 10k

## DTD133H
designator *  value DTD133H  Reference: Q
Digital NPN Transistor, 3k3/10k, SOT-23; ki_keywords: ROHM Digital NPN Transistor; ki_fp_filters: SOT?23* SC?59*; Description_: Digital NPN Transistor, 3k3/10k, SOT-23
pins: 1 B (in), 2 E, 3 C
text: 3k3; 10k

## DTD143T
designator *  value DTD143T  Reference: Q
Digital NPN Transistor, 4k7/NONE, SOT-23; ki_keywords: ROHM Digital NPN Transistor; ki_fp_filters: SOT?23* SC?59*; Description_: Digital NPN Transistor, 4k7/NONE, SOT-23
pins: 1 B (in), 2 E, 3 C
text: 4k7

## DTD163T
designator *  value DTD163T  Reference: Q
Digital NPN Transistor, 6k8/NONE, SOT-23; ki_keywords: ROHM Digital NPN Transistor; ki_fp_filters: SOT?23* SC?59*; Description_: Digital NPN Transistor, 6k8/NONE, SOT-23
pins: 1 B (in), 2 E, 3 C
text: 6k8

## EMH3
designator *  value EMH3  Reference: Q
0.1A Ic, 50V Vce, Dual NPN Input Resistor Transistors, SOT-563; ki_keywords: Dual NPN Transistor; ki_fp_filters: SOT?563*; Footprint: Package_TO_SOT_SMD:SOT-563; Datasheet: http://rohmfs.rohm.com/en/products/databook/datasheet/discrete/transistor/digital/emh3t2r-e.pdf; Description_: 0.1A Ic, 50V Vce, Dual NPN Input Resistor Transistors, SOT-563
part A pins: 1 E1, 2 B1 (in), 6 C1
part B pins: 3 C2, 4 E2, 5 B2 (in)

## FFB2222A
designator *  value FFB2222A  Reference: Q
600mA IC, 40V Vce, Dual NPN/NPN Transistors, SOT-363; ki_fp_filters: SOT?363*; Footprint: Package_TO_SOT_SMD:SOT-363_SC-70-6; Datasheet: https://www.onsemi.com/pub/Collateral/MMPQ2222A-D.pdf; Description_: 600mA IC, 40V Vce, Dual NPN/NPN Transistors, SOT-363; ki_keywords: NPN/NPN Transistor
part A pins: 1 E1, 2 B1 (in), 6 C1
part B pins: 3 C2, 4 E2, 5 B2 (in)

## FFB2227A
designator *  value FFB2227A  Reference: Q
500mA IC, 30V Vce, Dual NPN/PNP Transistors, SC-70-6; ki_fp_filters: SOT?363*; Footprint: Package_TO_SOT_SMD:SOT-363_SC-70-6; Datasheet: http://www.onsemi.com/pub/Collateral/FMB2227A-D.PDF; Description_: 500mA IC, 30V Vce, Dual NPN/PNP Transistors, SC-70-6; ki_keywords: NPN/PNP Transistor
part A pins: 1 E1, 2 B1 (in), 6 C1
part B pins: 3 C2, 4 E2, 5 B2 (in)

## FFB3904
designator *  value FFB3904  Reference: Q
200mA IC, 40V Vce, Dual NPN/NPN Transistors, SOT-363; ki_fp_filters: SOT?363*; Footprint: Package_TO_SOT_SMD:SOT-363_SC-70-6; Datasheet: https://www.onsemi.com/pub/Collateral/MMPQ3904-D.pdf; Description_: 200mA IC, 40V Vce, Dual NPN/NPN Transistors, SOT-363; ki_keywords: NPN/NPN Transistor
part A pins: 1 E1, 2 B1 (in), 6 C1
part B pins: 3 C2, 4 E2, 5 B2 (in)

## FFB3906
designator *  value FFB3906  Reference: Q
200mA IC, 40V Vce, Dual PNP/PNP Transistors, SOT-363; ki_fp_filters: SOT?363*; Footprint: Package_TO_SOT_SMD:SOT-363_SC-70-6; Datasheet: https://www.onsemi.com/pub/Collateral/MMPQ3906-D.pdf; Description_: 200mA IC, 40V Vce, Dual PNP/PNP Transistors, SOT-363; ki_keywords: PNP/PNP Transistor
part A pins: 1 E1, 2 B1 (in), 6 C1
part B pins: 3 C2, 4 E2, 5 B2 (in)

## FFB3946
designator *  value FFB3946  Reference: Q
200mA IC, 40V Vce, Dual NPN/PNP Transistors, SOT-363; ki_fp_filters: SOT?363*; Footprint: Package_TO_SOT_SMD:SOT-363_SC-70-6; Datasheet: http://www.onsemi.com/pub/Collateral/FMB3946-D.pdf; Description_: 200mA IC, 40V Vce, Dual NPN/PNP Transistors, SOT-363; ki_keywords: NPN/PNP Transistor
part A pins: 1 E1, 2 B1 (in), 6 C1
part B pins: 3 C2, 4 E2, 5 B2 (in)

## FFB5551
designator *  value FFB5551  Reference: Q
200mA IC, 160V Vce, Dual NPN/NPN Transistors, SOT-363; ki_fp_filters: SOT?363*; Footprint: Package_TO_SOT_SMD:SOT-363_SC-70-6; Datasheet: https://www.onsemi.com/pub/Collateral/FFB5551-D.PDF; Description_: 200mA IC, 160V Vce, Dual NPN/NPN Transistors, SOT-363; ki_keywords: NPN/NPN Transistor
part A pins: 1 E1, 2 B1 (in), 6 C1
part B pins: 3 C2, 4 E2, 5 B2 (in)

## FMB2227A
designator *  value FMB2227A  Reference: Q
500mA IC, 30V Vce, Dual NPN/PNP Transistors, SuperSOT-6; ki_fp_filters: SuperSOT*; Footprint: Package_TO_SOT_SMD:SuperSOT-6; Datasheet: http://www.onsemi.com/pub/Collateral/FMB2227A-D.PDF; Description_: 500mA IC, 30V Vce, Dual NPN/PNP Transistors, SuperSOT-6; ki_keywords: NPN/PNP Transistor
part A pins: 1 B1 (in), 5 E1, 6 C1
part B pins: 2 E2, 3 B2 (in), 4 C2

## FMB3946
designator *  value FMB3946  Reference: Q
200mA IC, 40V Vce, Dual NPN/PNP Transistors, SuperSOT-6; ki_fp_filters: SuperSOT*; Footprint: Package_TO_SOT_SMD:SuperSOT-6; Datasheet: http://www.onsemi.com/pub/Collateral/FMB3946-D.pdf; Description_: 200mA IC, 40V Vce, Dual NPN/PNP Transistors, SuperSOT-6; ki_keywords: NPN/PNP Transistor
part A pins: 1 B1 (in), 5 E1, 6 C1
part B pins: 2 E2, 3 B2 (in), 4 C2

## IMH3A
designator *  value IMH3A  Reference: Q
0.1A Ic, 50V Vce, Dual NPN Input Resistor Transistors, SOT-457; ki_keywords: Dual NPN Transistor; ki_fp_filters: ROHM*SOT?457*; Footprint: Package_TO_SOT_SMD:ROHM_SOT-457_ClockwisePinNumbering; Datasheet: http://rohmfs.rohm.com/en/products/databook/datasheet/discrete/transistor/digital/emh3t2r-e.pdf; Description_: 0.1A Ic, 50V Vce, Dual NPN Input Resistor Transistors, SOT-457
part A pins: 1 C1, 5 B1 (in), 6 E1
part B pins: 2 B2 (in), 3 E2, 4 C2

## KTD1624
designator *  value KTD1624  Reference: Q
Epitaxial Planar NPN Transistor, SOT-89; ki_keywords: Switching NPN Transistor; ki_fp_filters: SOT?89*; Footprint: Package_TO_SOT_SMD:SOT-89-3; Datasheet: http://www2.kec.co.kr/data/databook/pdf/KTD/Eng/KTD1624.pdf; Description_: Epitaxial Planar NPN Transistor, SOT-89
pins: 1 B (in), 2 C, 3 E

## MAT02
designator *  value MAT02  Reference: Q
20mA Ic, 40V Vce, Precision Dual Monolithic Low Noise, Low Offset Transistor, TO-78; ki_keywords: Precision Dual Monolithic Transistor Low Noise EOL; ki_fp_filters: TO?78*; Footprint: Package_TO_SOT_THT:TO-78-6; Datasheet: http://www.elenota.pl/datasheet_download/93431/MAT02; Description_: 20mA Ic, 40V Vce, Precision Dual Monolithic Low Noise, Low Offset Transistor, TO-78
part A pins: 1 C, 2 B (in), 3 E
part B pins: 4 E, 5 B (in), 6 C

## MBT2222ADW1T1
designator *  value MBT2222ADW1T1  Reference: Q
600mA IC, 40V Vce, Dual NPN/NPN Transistors, SOT-363; ki_fp_filters: SOT?363*; Footprint: Package_TO_SOT_SMD:SOT-363_SC-70-6; Datasheet: http://www.onsemi.com/pub_link/Collateral/MBT2222ADW1T1-D.PDF; Description_: 600mA IC, 40V Vce, Dual NPN/NPN Transistors, SOT-363; ki_keywords: NPN/NPN Transistor
part A pins: 1 E1, 2 B1 (in), 6 C1
part B pins: 3 C2, 4 E2, 5 B2 (in)

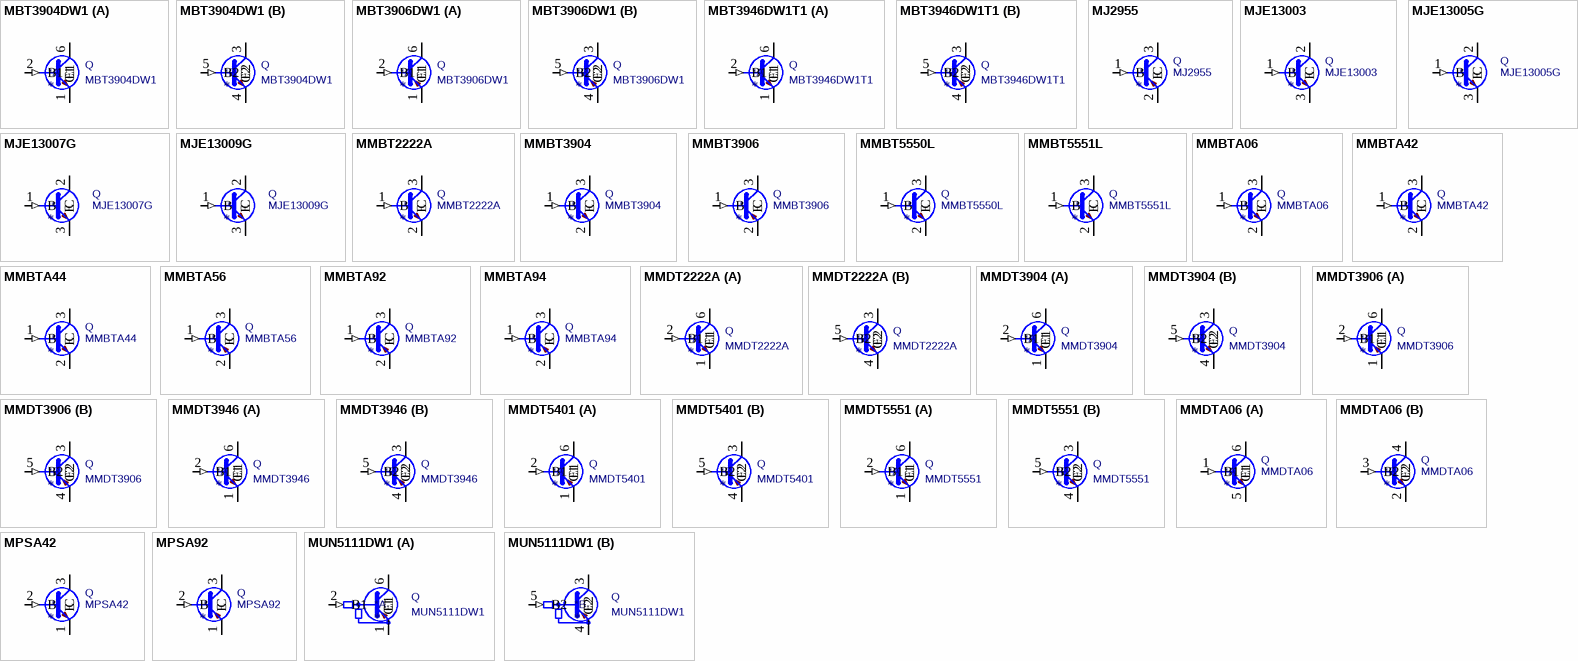
[diagram p7: symbols MBT3904DW1 to MUN5111DW1]

## MBT3904DW1
designator *  value MBT3904DW1  Reference: Q
200mA IC, 40V Vce, Dual NPN/NPN Transistors, SOT-363; ki_fp_filters: SOT?363*; Footprint: Package_TO_SOT_SMD:SOT-363_SC-70-6; Datasheet: http://www.onsemi.com/pub_link/Collateral/MBT3904DW1T1-D.PDF; Description_: 200mA IC, 40V Vce, Dual NPN/NPN Transistors, SOT-363; ki_keywords: NPN/NPN Transistor
part A pins: 1 E1, 2 B1 (in), 6 C1
part B pins: 3 C2, 4 E2, 5 B2 (in)

## MBT3906DW1
designator *  value MBT3906DW1  Reference: Q
200mA IC, 40V Vce, Dual PNP/PNP Transistors, SOT-363; ki_fp_filters: SOT?363*; Footprint: Package_TO_SOT_SMD:SOT-363_SC-70-6; Datasheet: http://www.onsemi.com/pub_link/Collateral/MBT3906DW1T1-D.PDF; Description_: 200mA IC, 40V Vce, Dual PNP/PNP Transistors, SOT-363; ki_keywords: PNP/PNP Transistor
part A pins: 1 E1, 2 B1 (in), 6 C1
part B pins: 3 C2, 4 E2, 5 B2 (in)

## MBT3946DW1T1
designator *  value MBT3946DW1T1  Reference: Q
200mA IC, 40V Vce, Dual NPN/PNP Transistors, SOT-363; ki_fp_filters: SOT?363*; Footprint: Package_TO_SOT_SMD:SOT-363_SC-70-6; Datasheet: http://www.onsemi.com/pub_link/Collateral/MBT3946DW1T1-D.PDF; Description_: 200mA IC, 40V Vce, Dual NPN/PNP Transistors, SOT-363; ki_keywords: NPN/PNP Transistor
part A pins: 1 E1, 2 B1 (in), 6 C1
part B pins: 3 C2, 4 E2, 5 B2 (in)

## MJ2955
designator *  value MJ2955  Reference: Q
-15A Ic, -60V Vce, Power PNP Transistor, TO-3; ki_fp_filters: TO?3*; Footprint: Package_TO_SOT_THT:TO-3; Datasheet: http://www.onsemi.com/pub_link/Collateral/2N3055-D.PDF; Description_: -15A Ic, -60V Vce, Power PNP Transistor, TO-3; ki_keywords: power PNP Transistor
pins: 1 B (in), 2 E, 3 C

## MJE13003
designator *  value MJE13003  Reference: Q
1.5A Ic, 400V Vce, Silicon Switching Power NPN Transistor, TO-225; ki_keywords: Switching Power High Voltage NPN Transistor; ki_fp_filters: TO?126*; Footprint: Package_TO_SOT_THT:TO-126-3_Vertical; Datasheet: http://www.onsemi.com/pub_link/Collateral/MJE13003-D.PDF; Description_: 1.5A Ic, 400V Vce, Silicon Switching Power NPN Transistor, TO-225
pins: 1 B (in), 2 C, 3 E

## MJE13005G
designator *  value MJE13005G  Reference: Q
4A Ic, 400V Vce, Silicon Switching Power NPN Transistors, TO-220; ki_fp_filters: TO?220*; Footprint: Package_TO_SOT_THT:TO-220-3_Vertical; Datasheet: http://www.onsemi.com/pub_link/Collateral/MJE13005-D.PDF; Description_: 4A Ic, 400V Vce, Silicon Switching Power NPN Transistors, TO-220; ki_keywords: Switching Power NPN Transistor
pins: 1 B (in), 2 C, 3 E

## MJE13007G
designator *  value MJE13007G  Reference: Q
8A Ic, 400V Vce, Silicon Switching Power NPN Transistors, TO-220; ki_fp_filters: TO?220*; Footprint: Package_TO_SOT_THT:TO-220-3_Vertical; Datasheet: http://www.onsemi.com/pub_link/Collateral/MJE13007-D.PDF; Description_: 8A Ic, 400V Vce, Silicon Switching Power NPN Transistors, TO-220; ki_keywords: Switching Power NPN Transistor
pins: 1 B (in), 2 C, 3 E

## MJE13009G
designator *  value MJE13009G  Reference: Q
12A Ic, 400V Vce, Silicon Switching Power NPN Transistors, TO-220; ki_fp_filters: TO?220*; Footprint: Package_TO_SOT_THT:TO-220-3_Vertical; Datasheet: http://www.onsemi.com/pub_link/Collateral/MJE13009-D.PDF; Description_: 12A Ic, 400V Vce, Silicon Switching Power NPN Transistors, TO-220; ki_keywords: Switching Power NPN Transistor
pins: 1 B (in), 2 C, 3 E

## MMBT2222A
designator *  value MMBT2222A  Reference: Q
600mA Ic, 40V Vce, NPN Transistor, SOT-23; ki_fp_filters: SOT?23*; Footprint: Package_TO_SOT_SMD:SOT-23; Datasheet: https://assets.nexperia.com/documents/data-sheet/MMBT2222A.pdf; Description_: 600mA Ic, 40V Vce, NPN Transistor, SOT-23; ki_keywords: NPN Transistor
pins: 1 B (in), 2 E, 3 C

## MMBT3904
designator *  value MMBT3904  Reference: Q
0.2A Ic, 40V Vce, Small Signal NPN Transistor, SOT-23; ki_fp_filters: SOT?23*; Footprint: Package_TO_SOT_SMD:SOT-23; Datasheet: https://www.onsemi.com/pdf/datasheet/pzt3904-d.pdf; Description_: 0.2A Ic, 40V Vce, Small Signal NPN Transistor, SOT-23; ki_keywords: NPN Transistor
pins: 1 B (in), 2 E, 3 C

## MMBT3906
designator *  value MMBT3906  Reference: Q
-0.2A Ic, -40V Vce, Small Signal PNP Transistor, SOT-23; ki_fp_filters: SOT?23*; Footprint: Package_TO_SOT_SMD:SOT-23; Datasheet: https://www.onsemi.com/pdf/datasheet/pzt3906-d.pdf; Description_: -0.2A Ic, -40V Vce, Small Signal PNP Transistor, SOT-23; ki_keywords: PNP Transistor
pins: 1 B (in), 2 E, 3 C

## MMBT5550L
designator *  value MMBT5550L  Reference: Q
0.6A Ic, 140V Vce, NPN Transistor, SOT-23; ki_fp_filters: SOT?23*; Footprint: Package_TO_SOT_SMD:SOT-23; Datasheet: www.onsemi.com/pub/Collateral/MMBT5550LT1-D.PDF; Description_: 0.6A Ic, 140V Vce, NPN Transistor, SOT-23; ki_keywords: NPN Transistor
pins: 1 B (in), 2 E, 3 C

## MMBT5551L
designator *  value MMBT5551L  Reference: Q
0.6A Ic, 160V Vce, NPN Transistor, SOT-23; ki_fp_filters: SOT?23*; Footprint: Package_TO_SOT_SMD:SOT-23; Datasheet: www.onsemi.com/pub/Collateral/MMBT5550LT1-D.PDF; Description_: 0.6A Ic, 160V Vce, NPN Transistor, SOT-23; ki_keywords: NPN Transistor
pins: 1 B (in), 2 E, 3 C

## MMBTA06
designator *  value MMBTA06  Reference: Q
0.5A Ic, 80V Vce, general purpose NPN; ki_keywords: SMD; ki_fp_filters: SOT?23*; Footprint: Package_TO_SOT_SMD:SOT-23; Datasheet: https://diotec.com/request/datasheet/mmbta06.pdf; Description_: 0.5A Ic, 80V Vce, general purpose NPN
pins: 1 B (in), 2 E, 3 C

## MMBTA42
designator *  value MMBTA42  Reference: Q
0.5A Ic, 300V Vce, NPN High Voltage Transistor, SOT-23; ki_fp_filters: SOT?23*; Footprint: Package_TO_SOT_SMD:SOT-23; Datasheet: https://www.onsemi.com/pub/Collateral/MMBTA42LT1-D.PDF; Description_: 0.5A Ic, 300V Vce, NPN High Voltage Transistor, SOT-23; ki_keywords: NPN High Voltage Transistor
pins: 1 B (in), 2 E, 3 C

## MMBTA44
designator *  value MMBTA44  Reference: Q
0.3A Ic, 400V Vce, NPN High Voltage Transistor, SOT-23; ki_keywords: SMD; ki_fp_filters: SOT?23*; Footprint: Package_TO_SOT_SMD:SOT-23; Datasheet: https://diotec.com/request/datasheet/mmbta42.pdf; Description_: 0.3A Ic, 400V Vce, NPN High Voltage Transistor, SOT-23
pins: 1 B (in), 2 E, 3 C

## MMBTA56
designator *  value MMBTA56  Reference: Q
0.5A Ic, 80V Vce, general purpose PNP; ki_keywords: SMD; ki_fp_filters: SOT?23*; Footprint: Package_TO_SOT_SMD:SOT-23; Datasheet: https://diotec.com/request/datasheet/mmbta56.pdf; Description_: 0.5A Ic, 80V Vce, general purpose PNP
pins: 1 B (in), 2 E, 3 C

## MMBTA92
designator *  value MMBTA92  Reference: Q
0.5A Ic, 300V Vce, PNP High Voltage Transistor, SOT-23; ki_fp_filters: SOT?23*; Footprint: Package_TO_SOT_SMD:SOT-23; Datasheet: https://www.onsemi.com/pub/Collateral/MMBTA92LT1-D.PDF; Description_: 0.5A Ic, 300V Vce, PNP High Voltage Transistor, SOT-23; ki_keywords: PNP High Voltage Transistor
pins: 1 B (in), 2 E, 3 C

## MMBTA94
designator *  value MMBTA94  Reference: Q
0.3A Ic, 400V Vce, PNP High Voltage Transistor, SOT-23; ki_fp_filters: SOT?23*; Footprint: Package_TO_SOT_SMD:SOT-23; Datasheet: https://diotec.com/request/datasheet/mmbta92.pdf; Description_: 0.3A Ic, 400V Vce, PNP High Voltage Transistor, SOT-23; ki_keywords: PNP
pins: 1 B (in), 2 E, 3 C

## MMDT2222A
designator *  value MMDT2222A  Reference: Q
600mA IC, 40V Vce, Dual NPN/NPN Transistors, SOT-363; ki_fp_filters: SOT?363*; Footprint: Package_TO_SOT_SMD:SOT-363_SC-70-6; Datasheet: http://www.diodes.com/_files/datasheets/ds30125.pdf; Description_: 600mA IC, 40V Vce, Dual NPN/NPN Transistors, SOT-363; ki_keywords: NPN/NPN Transistor
part A pins: 1 E1, 2 B1 (in), 6 C1
part B pins: 3 C2, 4 E2, 5 B2 (in)

## MMDT3904
designator *  value MMDT3904  Reference: Q
200mA IC, 40V Vce, Dual NPN/NPN Transistors, SOT-363; ki_fp_filters: SOT?363*; Footprint: Package_TO_SOT_SMD:SOT-363_SC-70-6; Datasheet: http://www.diodes.com/_files/datasheets/ds30088.pdf; Description_: 200mA IC, 40V Vce, Dual NPN/NPN Transistors, SOT-363; ki_keywords: NPN/NPN Transistor
part A pins: 1 E1, 2 B1 (in), 6 C1
part B pins: 3 C2, 4 E2, 5 B2 (in)

## MMDT3906
designator *  value MMDT3906  Reference: Q
200mA IC, 40V Vce, Dual PNP/PNP Transistors, SOT-363; ki_fp_filters: SOT?363*; Footprint: Package_TO_SOT_SMD:SOT-363_SC-70-6; Datasheet: http://www.diodes.com/_files/datasheets/ds30124.pdf; Description_: 200mA IC, 40V Vce, Dual PNP/PNP Transistors, SOT-363; ki_keywords: PNP/PNP Transistor
part A pins: 1 E1, 2 B1 (in), 6 C1
part B pins: 3 C2, 4 E2, 5 B2 (in)

## MMDT3946
designator *  value MMDT3946  Reference: Q
200mA IC, 40V Vce, Dual NPN/PNP Transistors, SOT-363; ki_fp_filters: SOT?363*; Footprint: Package_TO_SOT_SMD:SOT-363_SC-70-6; Datasheet: http://www.diodes.com/_files/datasheets/ds30123.pdf; Description_: 200mA IC, 40V Vce, Dual NPN/PNP Transistors, SOT-363; ki_keywords: NPN/PNP Transistor
part A pins: 1 E1, 2 B1 (in), 6 C1
part B pins: 3 C2, 4 E2, 5 B2 (in)

## MMDT5401
designator *  value MMDT5401  Reference: Q
200mA IC, 160V Vce, Dual PNP/PNP Transistors, SOT-363; ki_fp_filters: SOT?363*; Footprint: Package_TO_SOT_SMD:SOT-363_SC-70-6; Datasheet: http://www.diodes.com/_files/datasheets/ds30169.pdf; Description_: 200mA IC, 160V Vce, Dual PNP/PNP Transistors, SOT-363; ki_keywords: PNP/PNP Transistor
part A pins: 1 E1, 2 B1 (in), 6 C1
part B pins: 3 C2, 4 E2, 5 B2 (in)

## MMDT5551
designator *  value MMDT5551  Reference: Q
200mA IC, 160V Vce, Dual NPN/NPN Transistors, SOT-363; ki_fp_filters: SOT?363*; Footprint: Package_TO_SOT_SMD:SOT-363_SC-70-6; Datasheet: http://www.diodes.com/_files/datasheets/ds30172.pdf; Description_: 200mA IC, 160V Vce, Dual NPN/NPN Transistors, SOT-363; ki_keywords: NPN/NPN Transistor
part A pins: 1 E1, 2 B1 (in), 6 C1
part B pins: 3 C2, 4 E2, 5 B2 (in)

## MMDTA06
designator *  value MMDTA06  Reference: Q
500mA IC, 80V Vce, Dual NPN transistor, SC-74; ki_keywords: dual transistor NPN; ki_fp_filters: SC?74*; Footprint: Package_TO_SOT_SMD:SC-74-6_1.55x2.9mm_P0.95mm; Datasheet: https://www.diodes.com/assets/Datasheets/MMDTA06.pdf; Description_: 500mA IC, 80V Vce, Dual NPN transistor, SC-74
part A pins: 1 B1 (in), 5 E1, 6 C1
part B pins: 2 E2, 3 B2 (in), 4 C2

## MPSA42
designator *  value MPSA42  Reference: Q
0.5A Ic, 300V Vce, NPN High Voltage Transistor, TO-92; ki_fp_filters: TO?92*; Footprint: Package_TO_SOT_THT:TO-92_Inline; Datasheet: http://www.onsemi.com/pub_link/Collateral/MPSA42-D.PDF; Description_: 0.5A Ic, 300V Vce, NPN High Voltage Transistor, TO-92; ki_keywords: NPN High Voltage Transistor
pins: 1 E, 2 B (in), 3 C

## MPSA92
designator *  value MPSA92  Reference: Q
0.5A Ic, 300V Vce, PNP High Voltage Transistor, TO-92; ki_fp_filters: TO?92*; Footprint: Package_TO_SOT_THT:TO-92_Inline; Datasheet: http://www.onsemi.com/pub_link/Collateral/MPSA92-D.PDF; Description_: 0.5A Ic, 300V Vce, PNP High Voltage Transistor, TO-92; ki_keywords: PNP High Voltage Transistor
pins: 1 E, 2 B (in), 3 C

## MUN5111DW1
designator *  value MUN5111DW1  Reference: Q
Dual PNP Bias Resistor Transistors, Ic 100mA, Vce 50V, Vin(fwd) 40V, R1 = 10kohms, R2 = 10kohms, SOT-363; ki_keywords: BRT Digital Transistor; ki_fp_filters: SOT*363*; Footprint: Package_TO_SOT_SMD:SOT-363_SC-70-6; Datasheet: https://www.onsemi.com/download/data-sheet/pdf/dta114ed-d.pdf; Description_: Dual PNP Bias Resistor Transistors, Ic 100mA, Vce 50V, Vin(fwd) 40V, R1 = 10kohms, R2 = 10kohms, SOT-363
part A pins: 1 E1, 2 B1 (in), 6 C1
part B pins: 3 C2, 4 E2, 5 B2 (in)

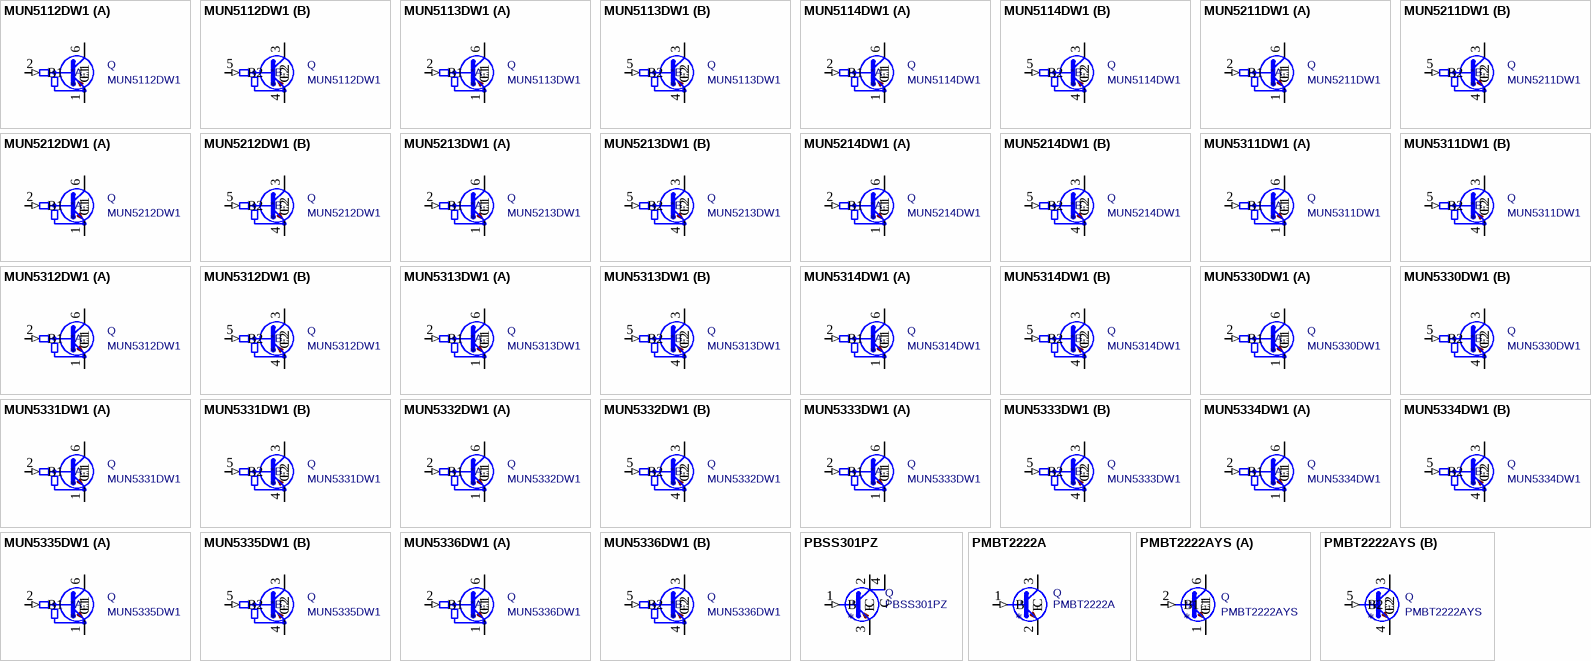
[diagram p8: symbols MUN5112DW1 to PMBT2222AYS]

## MUN5112DW1
designator *  value MUN5112DW1  Reference: Q
Dual PNP Bias Resistor Transistors, Ic 100mA, Vce 50V, Vin(fwd) 40V, R1 = 22kohms, R2 = 22kohms, SOT-363; ki_keywords: BRT Digital Transistor; ki_fp_filters: SOT*363*; Footprint: Package_TO_SOT_SMD:SOT-363_SC-70-6; Datasheet: https://www.onsemi.com/download/data-sheet/pdf/dta124ed-d.pdf; Description_: Dual PNP Bias Resistor Transistors, Ic 100mA, Vce 50V, Vin(fwd) 40V, R1 = 22kohms, R2 = 22kohms, SOT-363
part A pins: 1 E1, 2 B1 (in), 6 C1
part B pins: 3 C2, 4 E2, 5 B2 (in)

## MUN5113DW1
designator *  value MUN5113DW1  Reference: Q
Dual PNP Bias Resistor Transistors, Ic 100mA, Vce 50V, Vin(fwd) 40V, R1 = 47kohms, R2 = 47kohms, SOT-363; ki_keywords: BRT Digital Transistor; ki_fp_filters: SOT*363*; Footprint: Package_TO_SOT_SMD:SOT-363_SC-70-6; Datasheet: https://www.onsemi.com/download/data-sheet/pdf/dta144ed-d.pdf; Description_: Dual PNP Bias Resistor Transistors, Ic 100mA, Vce 50V, Vin(fwd) 40V, R1 = 47kohms, R2 = 47kohms, SOT-363
part A pins: 1 E1, 2 B1 (in), 6 C1
part B pins: 3 C2, 4 E2, 5 B2 (in)

## MUN5114DW1
designator *  value MUN5114DW1  Reference: Q
Dual PNP Bias Resistor Transistors, Ic 100mA, Vce 50V, Vin(fwd) 40V, R1 = 10kohms, R2 = 47kohms, SOT-363; ki_keywords: BRT Digital Transistor; ki_fp_filters: SOT*363*; Footprint: Package_TO_SOT_SMD:SOT-363_SC-70-6; Datasheet: https://www.onsemi.com/download/data-sheet/pdf/dta114yd-d.pdf; Description_: Dual PNP Bias Resistor Transistors, Ic 100mA, Vce 50V, Vin(fwd) 40V, R1 = 10kohms, R2 = 47kohms, SOT-363
part A pins: 1 E1, 2 B1 (in), 6 C1
part B pins: 3 C2, 4 E2, 5 B2 (in)

## MUN5211DW1
designator *  value MUN5211DW1  Reference: Q
Dual NPN Bias Resistor Transistors, Ic 100mA, Vce 50V, Vin(fwd) 40V, R1 = 10kohms, R2 = 10kohms, SOT-363; ki_keywords: BRT Digital Transistor; ki_fp_filters: SOT*363*; Footprint: Package_TO_SOT_SMD:SOT-363_SC-70-6; Datasheet: http://www.onsemi.com/pub/Collateral/DTC114ED-D.PDF; Description_: Dual NPN Bias Resistor Transistors, Ic 100mA, Vce 50V, Vin(fwd) 40V, R1 = 10kohms, R2 = 10kohms, SOT-363
part A pins: 1 E1, 2 B1 (in), 6 C1
part B pins: 3 C2, 4 E2, 5 B2 (in)

## MUN5212DW1
designator *  value MUN5212DW1  Reference: Q
Dual NPN Bias Resistor Transistors, Ic 100mA, Vce 50V, Vin(fwd) 40V, R1 = 22kohms, R2 = 22kohms, SOT-363; ki_keywords: BRT Digital Transistor; ki_fp_filters: SOT*363*; Footprint: Package_TO_SOT_SMD:SOT-363_SC-70-6; Datasheet: https://www.onsemi.com/download/data-sheet/pdf/dtc124ed-d.pdf; Description_: Dual NPN Bias Resistor Transistors, Ic 100mA, Vce 50V, Vin(fwd) 40V, R1 = 22kohms, R2 = 22kohms, SOT-363
part A pins: 1 E1, 2 B1 (in), 6 C1
part B pins: 3 C2, 4 E2, 5 B2 (in)

## MUN5213DW1
designator *  value MUN5213DW1  Reference: Q
Dual NPN Bias Resistor Transistors, Ic 100mA, Vce 50V, Vin(fwd) 40V, R1 = 47kohms, R2 = 47kohms, SOT-363; ki_keywords: BRT Digital Transistor; ki_fp_filters: SOT*363*; Footprint: Package_TO_SOT_SMD:SOT-363_SC-70-6; Datasheet: https://www.onsemi.com/download/data-sheet/pdf/dtc144ed-d.pdf; Description_: Dual NPN Bias Resistor Transistors, Ic 100mA, Vce 50V, Vin(fwd) 40V, R1 = 47kohms, R2 = 47kohms, SOT-363
part A pins: 1 E1, 2 B1 (in), 6 C1
part B pins: 3 C2, 4 E2, 5 B2 (in)